# Altium integrated library TCK106AG,LF.IntLib: 1 symbol
Pins are listed as number, name and electrical type; pins without a type are passive.

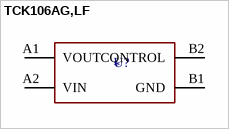
[diagram p0: symbol TCK106AG,LF]

## TCK106AG,LF
designator U?  (value not drawn)
Power Distribution Switches. -40C~+85C 1 1.1V~5.5V 1A 34mohm Active High Load Switch WCSPD-4(0.79x0.79) Power Distribution Switches ROHS; Manufacturer: TOSHIBA; Component Type: Integrated Circuits; Design Item ID: TCK106AG,LF; Value: *; JLCPCB Part #: C2149807; Manufacturer Part Number: TCK106AG,LF
footprint TCK106AG,LF (WCSPD-4_L0.8-W0.8-R2-C2-P0.40-TL)
pins: A1 VOUT, A2 VIN, B1 GND, B2 CONTROL